# EAGLE library part SCM1293A-04SO (library SCM1293A-04SO)
ESD Suppressors / TVS Diodes 4 CH. LOW CAP ESD Source: Datasheet <https://www.onsemi.com/pub/Collateral/CM1293A-04SO-D.PDF>
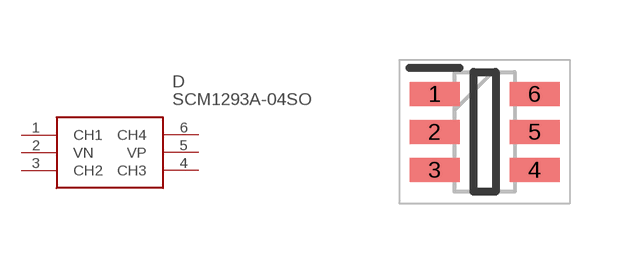
[diagram p0: symbol with the pads of SOT95P275X110-6N; footprint SOT95P275X110-6N]

Designator prefix D

## SCM1293A-04SO (Description: ESD Suppressors / TVS Diodes 4 CH. LOW CAP ESD; Height: 1.1mm; Manufacturer_Name: ON Semiconductor; Manufacturer_Part_Number: SCM1293A-04SO; Mouser_Part_Number: 863-SCM1293A-04SO; Mouser_Price-Stock: https://www.mouser.co.uk/ProductDetail/onsemi/SCM1293A-04SO?qs=xGcJQ%252BnsJwsHFkDapKZ7eg%3D%3D)  [SOT95P275X110-6N]
1  CH1
2  VN
3  CH2
4  CH3
5  VP
6  CH4

## Footprint SOT95P275X110-6N (pad centres in mm)
SC-74
smd 1.25 x 0.6: 1 -1.25,0.95; 2 -1.25,0; 3 -1.25,-0.95; 4 1.25,-0.95; 5 1.25,0; 6 1.25,0.95